# Altium schematic symbol library priit-schematics.SchLib: 13 symbols
Pins are listed as number, name and electrical type; pins without a type are passive.

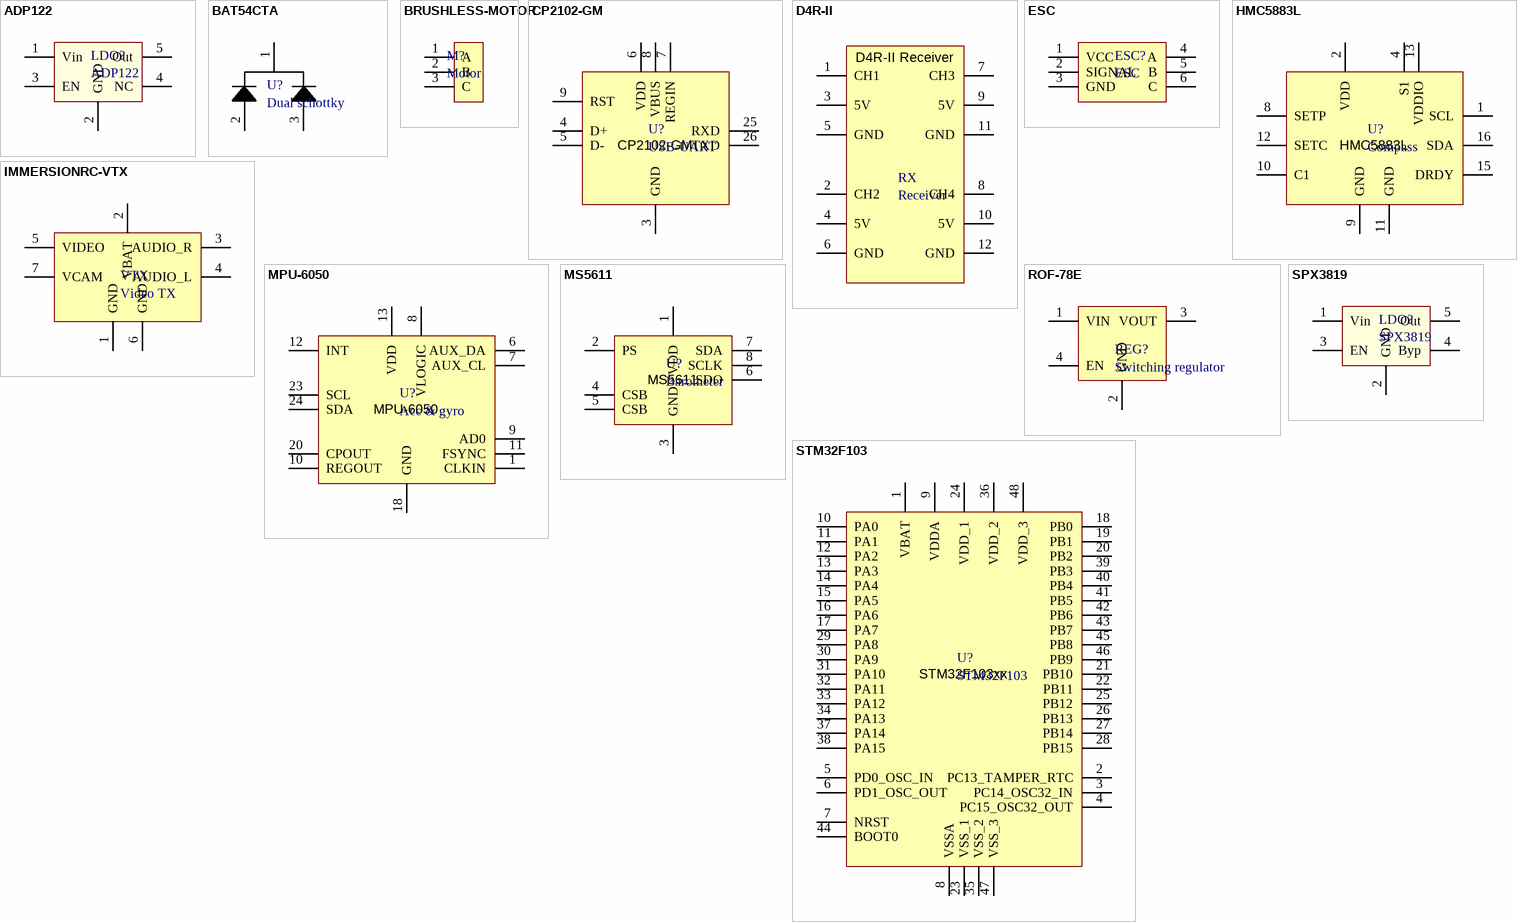
[diagram p0: symbols ADP122 to STM32F103]

## ADP122
designator LDO?
Low dropout regulator
footprint SOT23-5
pins: 1 Vin, 2 GND, 3 EN, 4 NC, 5 Out

## BAT54CTA
designator U?, comment Dual schottky
Common cathode dual schottky
footprint SOT23-3
pins: 1 A, 2 A, 3 A

## BRUSHLESS-MOTOR
designator M?, comment Motor
Brushless motor connector
footprint MOTOR-BULLETS (2.5mm ESC connector)
pins: 1 A, 2 B, 3 C

## CP2102-GM
designator U?, comment USB-UART
USB to UART
footprint QFN28 (5x5mm 28 pin quad flat no-leads package)
pins: 1 NC hidden, 2 NC hidden, 3 GND, 4 D+, 5 D-, 6 VDD, 7 REGIN, 8 VBUS, 9 RST, 10 NC hidden, 11 NC hidden, 12 NC hidden, 13 NC hidden, 14 NC hidden, 15 NC hidden, 16 NC hidden, 17 NC hidden, 18 NC hidden, 19 NC hidden, 20 NC hidden, 21 NC hidden, 22 NC hidden, 23 NC hidden, 24 NC hidden, 25 RXD, 26 TXD, 27 NC hidden, 28 NC hidden

## D4R-II
designator RX, comment Receiver
Remote receiver
footprint D4R-II (Frsky D4R-II Receiver)
pins: 1 CH1, 2 CH2, 3 5V, 4 5V, 5 GND, 6 GND, 7 CH3, 8 CH4, 9 5V, 10 5V, 11 GND, 12 GND
text: D4R-II Receiver

## ESC
designator ESC?
Electronic Speed Controller
footprint KISS-ESC-18A (KISS ESC 18A)
pins: 1 VCC, 2 SIGNAL, 3 GND, 4 A, 5 B, 6 C

## HMC5883L
designator U?, comment Compass
3 axis magnetometer
footprint LCC-3x3-0.5-16 (LCC, 16-Pins, Body 3,00x3,00mmx0,90mm, Pitch 0,50mm, IPC Medium Density)
pins: 1 SCL, 2 VDD, 3 NC hidden, 4 S1, 5 NC hidden, 6 NC hidden, 7 NC hidden, 8 SETP, 9 GND, 10 C1, 11 GND, 12 SETC, 13 VDDIO, 14 NC hidden, 15 DRDY, 16 SDA

## IMMERSIONRC-VTX
designator VTX, comment Video TX
ImmersionRC 600mW video transmitter
footprint IMMERSIONRC-VTX (ImmersionRC 600mW video transmitter)
pins: 1 GND, 2 VBAT, 3 AUDIO_R, 4 AUDIO_L, 5 VIDEO, 6 GND, 7 VCAM

## MPU-6050
designator U?, comment Acc & gyro
6 axis i2c accelerometer and gyro
footprint QFN-4x4-0.5-24 (QFN, 24-Leads, Body 4,00x4,00mm, Pitch 0,50mm, IPC Medium Density)
pins: 1 CLKIN, 2 NC hidden, 2 NC hidden, 3 NC hidden, 3 NC hidden, 4 NC hidden, 4 NC hidden, 5 NC hidden, 5 NC hidden, 6 AUX_DA, 7 AUX_CL, 8 VLOGIC, 9 AD0, 10 REGOUT, 11 FSYNC, 12 INT, 13 VDD, 14 NC hidden, 14 NC hidden, 15 NC hidden, 15 NC hidden, 16 NC hidden, 16 NC hidden, 17 NC hidden, 17 NC hidden, 18 GND, 19 RESV hidden, 20 CPOUT, 21 RESV hidden, 22 RESV hidden, 23 SCL, 24 SDA

## MS5611
designator U?, comment Barometer
High precision barometric pressure sensor
footprint MS5611 (Barometer)
pins: 1 VDD, 2 PS, 3 GND, 4 CSB, 5 CSB, 6 SDO, 7 SDA, 8 SCLK

## ROF-78E
designator REG?, comment Switching regulator
5V switching regulator
footprint ROF-78E (Switching voltage regulator)
pins: 1 VIN, 2 GND, 3 VOUT, 4 EN

## SPX3819
designator LDO?
Low dropout regulator
footprint SOT23-5
pins: 1 Vin, 2 GND, 3 EN, 4 Byp, 5 Out

## STM32F103
designator U?
STM32F103xx LQFP48
footprint LQFP48 (Plastic quad flat pack 48 pins 7x7mm)
pins: 1 VBAT, 2 PC13_TAMPER_RTC, 3 PC14_OSC32_IN, 4 PC15_OSC32_OUT, 5 PD0_OSC_IN, 6 PD1_OSC_OUT, 7 NRST, 8 VSSA, 9 VDDA, 10 PA0, 11 PA1, 12 PA2, 13 PA3, 14 PA4, 15 PA5, 16 PA6, 17 PA7, 18 PB0, 19 PB1, 20 PB2, 21 PB10, 22 PB11, 23 VSS_1, 24 VDD_1, 25 PB12, 26 PB13, 27 PB14, 28 PB15, 29 PA8, 30 PA9, 31 PA10, 32 PA11, 33 PA12, 34 PA13, 35 VSS_2, 36 VDD_2, 37 PA14, 38 PA15, 39 PB3, 40 PB4, 41 PB5, 42 PB6, 43 PB7, 44 BOOT0, 45 PB8, 46 PB9, 47 VSS_3, 48 VDD_3
text: STM32F103xx